# Altium footprint library TO-220AB - Offset.PcbLib: 1 footprints
Each footprint in its own frame and in the unit in brackets; x right, y up, seen from the top. Pads: shape width x height; smd on the part's side, far side on the other; paste and mask are expansions set on the pad; w line width, h text height; cw(c..) or ccw(c..) is an arc to the next point about the centre after c.
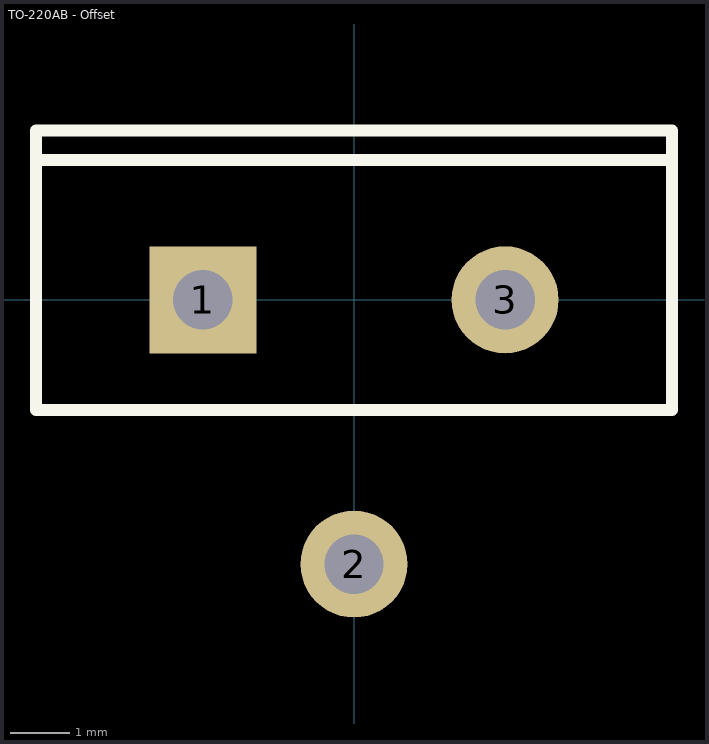
[diagram p0: the footprint, top view; thin cyan lines are the x and y axes]

## TO-220AB - Offset [mm] "TO-220AB w/ offset pin for 3mm clearance"
pads (3):
  rect 1.8x1.8 hole 1: 1(-2.54,0)
  round 1.8 hole 1: 2(0,-4.445) 3(2.54,0)
Top Overlay:
  lines w0.2: -5.35,2.35 5.35,2.35 ; -5.35,-1.85 -5.35,2.85 5.35,2.85 5.35,-1.85 -5.35,-1.85
3D body: height 12.3, standoff 4, extent -5.349,-1.849 5.349,2.349
3D body: height 19.5, standoff 4, extent -5.334,1.295 5.334,2.845
3D body: height 4, standoff -2, extent -2.972,-0.254 -2.108,0.229
3D body: height 4, standoff -2, extent 2.108,-0.254 2.972,0.229
3D body: height 3, standoff -2, extent -0.432,-4.699 0.432,-4.216
3D body: height 3.48, standoff 3, extent -0.432,-4.699 0.432,0